# Altium footprint library CN_CINCH_WBTOR1L.PcbLib: 1 footprints
Each footprint in its own frame and in the unit in brackets; x right, y up, seen from the top. Pads: shape width x height; smd on the part's side, far side on the other; paste and mask are expansions set on the pad; w line width, h text height; cw(c..) or ccw(c..) is an arc to the next point about the centre after c.
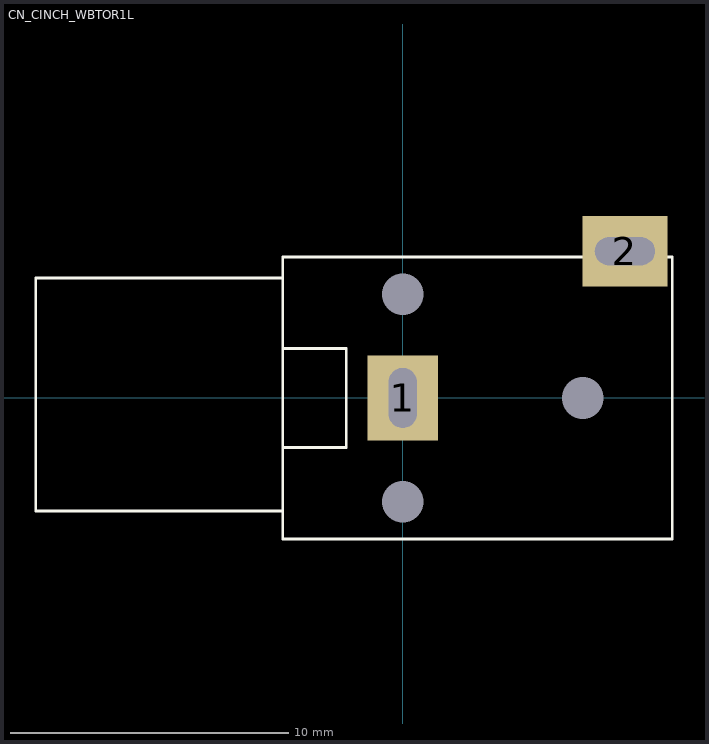
[diagram p0: the footprint, top view; thin cyan lines are the x and y axes]

## CN_CINCH_WBTOR1L [mil] "CN_CINCH_WBTOR1L"
pads (5):
  round 0 hole 59 unplated mask+34: 0(0,-147) 0(0,147) 0(255,0)
  rect 100x120 hole 40 slot 85 at 90 deg: 1(0,0)
  rect 120x100 hole 40 slot 85 at 0 deg: 2(315,208)
Top Overlay:
  lines w4: -170,-160 -520,-160 -520,170 -170,170 ; -170,-70 -80,-70 -80,70 -170,70 ; -170,-200 381.93,-200 381.93,200 -170,200 -170,-200
Mechanical 2:
  lines w39.37: 0,-22.5 0,22.5 ; 292.5,208 339.5,208
  text "2 x 1.016x2.159mm" at -561.5,291 h60
3D body: height 59.06, standoff 0, extent -39.05,-186.29 39.37,-107.7
3D body: height 59.06, standoff 0, extent 215.95,-39.29 294.38,39.3
3D body: height 59.06, standoff 0, extent -39.05,107.71 39.37,186.29
3D body: height 570.87, standoff 59.06, extent -169.25,-193.57 381.93,200.13
3D body: height 477.06, standoff 151.57, extent -523.58,-159.79 -169.25,166.34
3D body: height 541.34, standoff 88.58, extent -1517.68,-229.01 155.55,223.75